# EAGLE library part MT40A1G16TB-062E_IT_F (library MT40A1G16TB-062E_IT_F)
DRAM DDR4 16G 1GX16 FBGA IT Source: Datasheet <https://media-www.micron.com/-/media/client/global/documents/products/data-sheet/dram/ddr4/16gb_ddr4_sdram.pdf>
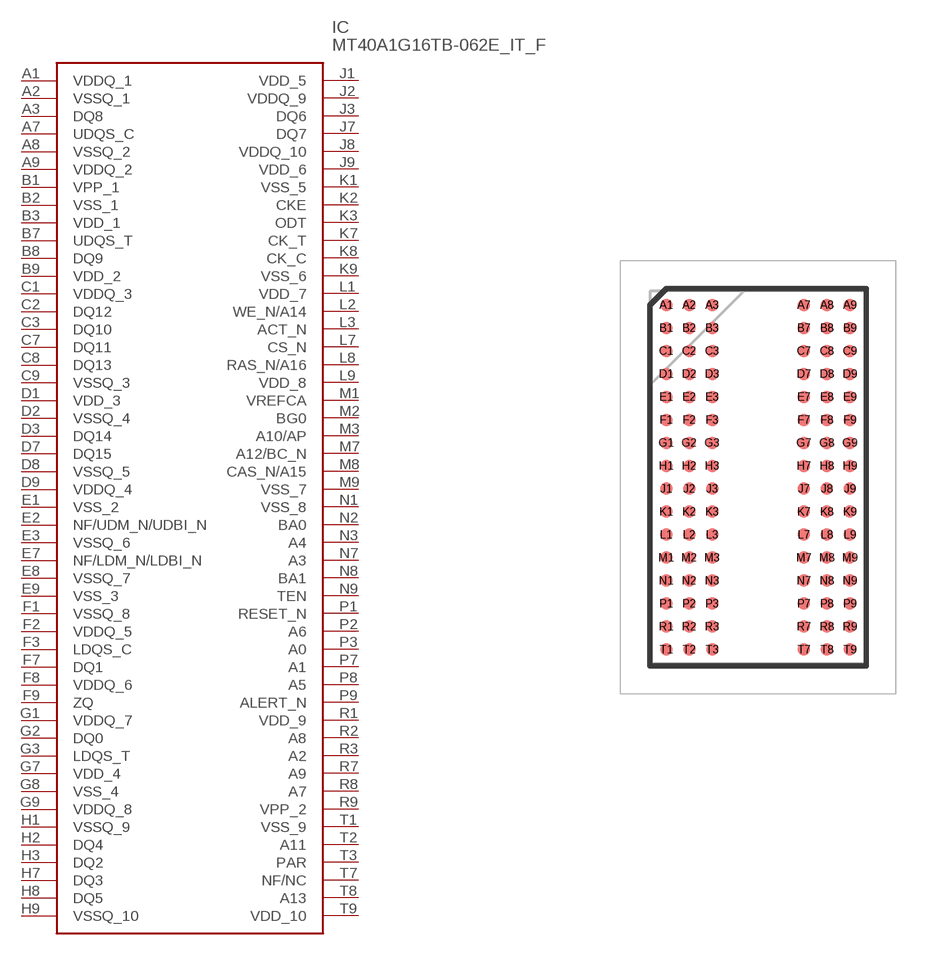
[diagram p0: symbol with the pads of BGA96C80P9X16_750X1300X120; footprint BGA96C80P9X16_750X1300X120]

Designator prefix IC

## MT40A1G16TB-062E_IT_F (Arrow_Part_Number: MT40A1G16TB-062E IT:F; Arrow_Price-Stock: https://www.arrow.com/en/products/mt40a1g16tb-062e-itf/micron-technology?utm_currency=USD&region=nac; Description: DRAM DDR4 16G 1GX16 FBGA IT; Height: 1.2mm; Manufacturer_Name: Micron; Manufacturer_Part_Number: MT40A1G16TB-062E IT:F; Mouser_Part_Number: 340-531431-TRAY; Mouser_Price-Stock: https://www.mouser.co.uk/ProductDetail/Micron/MT40A1G16TB-062E-ITF?qs=Wj%2FVkw3K%252BMA17qGkqaCFgw%3D%3D)  [BGA96C80P9X16_750X1300X120]
A1  VDDQ_1
A2  VSSQ_1
A3  DQ8
A7  UDQS_C
A8  VSSQ_2
A9  VDDQ_2
B1  VPP_1
B2  VSS_1
B3  VDD_1
B7  UDQS_T
B8  DQ9
B9  VDD_2
C1  VDDQ_3
C2  DQ12
C3  DQ10
C7  DQ11
C8  DQ13
C9  VSSQ_3
D1  VDD_3
D2  VSSQ_4
D3  DQ14
D7  DQ15
D8  VSSQ_5
D9  VDDQ_4
E1  VSS_2
E2  NF/UDM_N/UDBI_N
E3  VSSQ_6
E7  NF/LDM_N/LDBI_N
E8  VSSQ_7
E9  VSS_3
F1  VSSQ_8
F2  VDDQ_5
F3  LDQS_C
F7  DQ1
F8  VDDQ_6
F9  ZQ
G1  VDDQ_7
G2  DQ0
G3  LDQS_T
G7  VDD_4
G8  VSS_4
G9  VDDQ_8
H1  VSSQ_9
H2  DQ4
H3  DQ2
H7  DQ3
H8  DQ5
H9  VSSQ_10
J1  VDD_5
J2  VDDQ_9
J3  DQ6
J7  DQ7
J8  VDDQ_10
J9  VDD_6
K1  VSS_5
K2  CKE
K3  ODT
K7  CK_T
K8  CK_C
K9  VSS_6
L1  VDD_7
L2  WE_N/A14
L3  ACT_N
L7  CS_N
L8  RAS_N/A16
L9  VDD_8
M1  VREFCA
M2  BG0
M3  A10/AP
M7  A12/BC_N
M8  CAS_N/A15
M9  VSS_7
N1  VSS_8
N2  BA0
N3  A4
N7  A3
N8  BA1
N9  TEN
P1  RESET_N
P2  A6
P3  A0
P7  A1
P8  A5
P9  ALERT_N
R1  VDD_9
R2  A8
R3  A2
R7  A9
R8  A7
R9  VPP_2
T1  VSS_9
T2  A11
T3  PAR
T7  NF/NC
T8  A13
T9  VDD_10

## Footprint BGA96C80P9X16_750X1300X120 (pad centres in mm)
96-Ball FBGA - x16 (TB)
smd 0.427 x 0.427: A1 -3.2,6; A2 -2.4,6; A3 -1.6,6; A7 1.6,6; A8 2.4,6; A9 3.2,6; B1 -3.2,5.2; B2 -2.4,5.2; B3 -1.6,5.2; B7 1.6,5.2; B8 2.4,5.2; B9 3.2,5.2; C1 -3.2,4.4; C2 -2.4,4.4; C3 -1.6,4.4; C7 1.6,4.4; C8 2.4,4.4; C9 3.2,4.4; D1 -3.2,3.6; D2 -2.4,3.6; D3 -1.6,3.6; D7 1.6,3.6; D8 2.4,3.6; D9 3.2,3.6; E1 -3.2,2.8; E2 -2.4,2.8; E3 -1.6,2.8; E7 1.6,2.8; E8 2.4,2.8; E9 3.2,2.8; F1 -3.2,2; F2 -2.4,2; F3 -1.6,2; F7 1.6,2; F8 2.4,2; F9 3.2,2; G1 -3.2,1.2; G2 -2.4,1.2; G3 -1.6,1.2; G7 1.6,1.2; G8 2.4,1.2; G9 3.2,1.2; H1 -3.2,0.4; H2 -2.4,0.4; H3 -1.6,0.4; H7 1.6,0.4; H8 2.4,0.4; H9 3.2,0.4; J1 -3.2,-0.4; J2 -2.4,-0.4; J3 -1.6,-0.4; J7 1.6,-0.4; J8 2.4,-0.4; J9 3.2,-0.4; K1 -3.2,-1.2; K2 -2.4,-1.2; K3 -1.6,-1.2; K7 1.6,-1.2; K8 2.4,-1.2; K9 3.2,-1.2; L1 -3.2,-2; L2 -2.4,-2; L3 -1.6,-2; L7 1.6,-2; L8 2.4,-2; L9 3.2,-2; M1 -3.2,-2.8; M2 -2.4,-2.8; M3 -1.6,-2.8; M7 1.6,-2.8; M8 2.4,-2.8; M9 3.2,-2.8; N1 -3.2,-3.6; N2 -2.4,-3.6; N3 -1.6,-3.6; N7 1.6,-3.6; N8 2.4,-3.6; N9 3.2,-3.6; P1 -3.2,-4.4; P2 -2.4,-4.4; P3 -1.6,-4.4; P7 1.6,-4.4; P8 2.4,-4.4; P9 3.2,-4.4; R1 -3.2,-5.2; R2 -2.4,-5.2; R3 -1.6,-5.2; R7 1.6,-5.2; R8 2.4,-5.2; R9 3.2,-5.2; T1 -3.2,-6; T2 -2.4,-6; T3 -1.6,-6; T7 1.6,-6; T8 2.4,-6; T9 3.2,-6